# Altium footprint library WE-SECF.PcbLib: 22 footprints (part 2 of 2)
Each footprint in its own frame and in the unit in brackets; x right, y up, seen from the top. Pads: shape width x height; smd on the part's side, far side on the other; paste and mask are expansions set on the pad; w line width, h text height; cw(c..) or ccw(c..) is an arc to the next point about the centre after c.
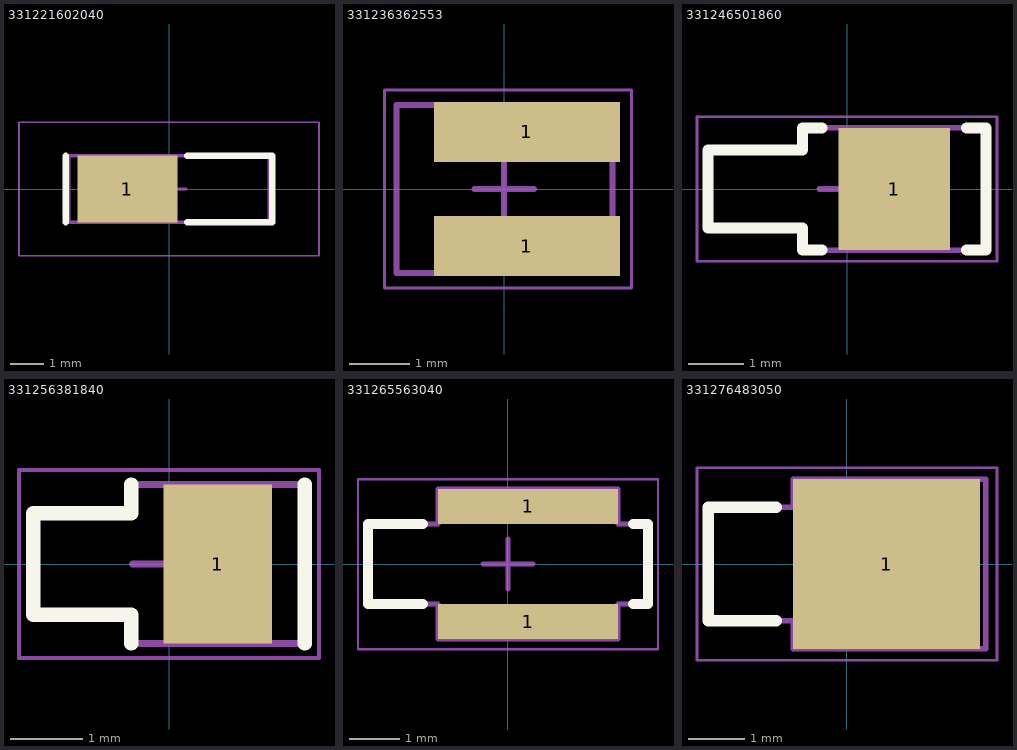
[diagram p1: the footprints below, top view; thin cyan lines are the x and y axes]

## 331221602040 [mm] "SMD EMI Contact Finger, 6x2mm"
height 4.2
pads (1):
  rect 3x2 smd: 1(-1.25,0)
Top Overlay:
  lines w0.2: -3.1,-1 -3.1,1 ; 0.55,-1 3.1,-1 3.1,1 0.55,1
Top Assembly:
  lines w0.1: -3,-1 -3,1 3,1 3,-1 -3,-1
Top Designator:
  text ".Designator" at -3.647,-0.357 h1
Top 3D Body:
  lines w0.1: -3,-1 3,-1 3,1 -3,1 -3,-1
Top Courtyard:
  lines w0.05: -4.5,-2 -4.5,2 4.5,2 4.5,-2 -4.5,-2
Top Component Center:
  lines w0.1: -0.5,0 0.5,0 ; 0,-0.5 0,0.5
3D body "331221602040.stp": height 4, standoff 0, extent -2.995,-1 2.995,1

## 331236362553 [mm] "SMD EMI Contact Finger, 3.6x2.8mm"
height 5.3
pads (2):
  rect 3.1x1 smd: 1(0.375,-0.95) 1(0.375,0.95)
Top Assembly:
  lines w0.1: -1.8,-1.4 1.8,-1.4 1.8,1.4 -1.8,1.4 -1.8,-1.4
Top Designator:
  text ".Designator" at -3.647,-0.357 h1
Top 3D Body:
  lines w0.1: -1.8,-1.4 -1.8,1.4 1.8,1.4 1.8,-1.4 -1.8,-1.4
Top Courtyard:
  lines w0.05: -2,-1.65 -2,1.65 2.125,1.65 2.125,-1.65 -2,-1.65
Top Component Center:
  lines w0.1: -0.5,0 0.5,0 ; 0,-0.5 0,0.5
3D body "33123x362553.stp": height 5.31, standoff 0.01, extent -1.8,-1.4 1.8,1.4

## 331246501860 [mm] "SMD EMI Contact Finger, 5x2.6mm"
height 6
pads (1):
  rect 2x2.2 smd: 1(0.85,0)
Top Overlay:
  lines w0.2: -0.45,-1.1 -0.8,-1.1 -0.8,-0.7 -2.5,-0.7 -2.5,0.7 -0.8,0.7 -0.8,1.1 -0.45,1.1 ; 2.15,-1.1 2.5,-1.1 2.5,1.1 2.15,1.1
Top Assembly:
  lines w0.1: -2.5,-0.7 -2.5,0.7 -0.8,0.7 -0.8,1.1 2.5,1.1 2.5,-1.1 -0.8,-1.1 -0.8,-0.7 -2.5,-0.7
Top Designator:
  text ".Designator" at -3.647,-0.357 h1
Top 3D Body:
  lines w0.1: -2.5,-0.7 -0.8,-0.7 -0.8,-1.1 2.5,-1.1 2.5,1.1 -0.8,1.1 -0.8,0.7 -2.5,0.7 -2.5,-0.7
Top Courtyard:
  lines w0.05: -2.7,-1.3 2.7,-1.3 2.7,1.3 -2.7,1.3 -2.7,-1.3
Top Component Center:
  lines w0.1: -0.5,0 0.5,0 ; 0,-0.5 0,0.5
3D body "33124x501860.stp": height 6.02, standoff 0.01, extent -2.499,-1.3 2.5,1.3

## 331256381840 [mm] "SMD EMI Contact Finger, 3.75x2.5mm"
height 4
pads (1):
  rect 1.5x2.2 smd: 1(0.675,0)
Top Overlay:
  lines w0.2: -0.525,-1.1 -0.525,-0.7 -1.875,-0.7 -1.875,0.7 -0.525,0.7 -0.525,1.1 ; 1.875,-1.1 1.875,1.1
Top Assembly:
  lines w0.1: -1.875,-0.7 -1.875,0.7 -0.525,0.7 -0.525,1.1 1.875,1.1 1.875,-1.1 -0.525,-1.1 -0.525,-0.7 -1.875,-0.7
Top Designator:
  text ".Designator" at -3.647,-0.357 h1
Top 3D Body:
  lines w0.1: -1.875,-0.7 -0.525,-0.7 -0.525,-1.1 1.875,-1.1 1.875,1.1 -0.525,1.1 -0.525,0.7 -1.875,0.7 -1.875,-0.7
Top Courtyard:
  lines w0.05: -2.075,-1.3 2.075,-1.3 2.075,1.3 -2.075,1.3 -2.075,-1.3
Top Component Center:
  lines w0.1: -0.5,0 0.5,0 ; 0,-0.5 0,0.5
3D body "33125x381840.stp": height 4.08, standoff 0.07, extent -1.872,-1.25 1.875,1.25

## 331265563040 [mm] "SMD EMI Contact Finger, 5.6x3mm"
height 4
pads (2):
  rect 3.6x0.7 smd: 1(0.4,-1.15) 1(0.4,1.15)
Top Overlay:
  lines w0.2: -1.7,-0.8 -2.8,-0.8 -2.8,0.8 -1.7,0.8 ; 2.5,-0.8 2.8,-0.8 2.8,0.8 2.5,0.8
Top Assembly:
  lines w0.1: -2.8,-0.8 -2.8,0.8 -1.4,0.8 -1.4,1.5 2.2,1.5 2.2,0.8 2.8,0.8 2.8,-0.8 2.2,-0.8 2.2,-1.5 -1.4,-1.5 -1.4,-0.8 -2.8,-0.8
Top Designator:
  text ".Designator" at -3.647,-0.357 h1
Top 3D Body:
  lines w0.1: -2.8,-0.8 -1.4,-0.8 -1.4,-1.5 2.2,-1.5 2.2,-0.8 2.8,-0.8 2.8,0.8 2.2,0.8 2.2,1.5 -1.4,1.5 -1.4,0.8 -2.8,0.8 -2.8,-0.8
Top Courtyard:
  lines w0.05: -3,-1.7 3,-1.7 3,1.7 -3,1.7 -3,-1.7
Top Component Center:
  lines w0.1: -0.5,0 0.5,0 ; 0,-0.5 0,0.5
3D body "33126x563040.stp": height 4.03, standoff 0.03, extent -2.799,-1.5 2.8,1.5

## 331276483050 [mm] "SMD EMI Contact Finger, 4.9x3mm"
height 5
pads (1):
  rect 3.3x3 smd: 1(0.7,0)
Top Overlay:
  lines w0.2: -1.25,-1 -2.45,-1 -2.45,1 -1.25,1
Top Assembly:
  lines w0.1: -2.45,-1 -2.45,1 -0.95,1 -0.95,1.5 2.45,1.5 2.45,-1.5 -0.95,-1.5 -0.95,-1 -2.45,-1
Top Designator:
  text ".Designator" at -3.647,-0.357 h1
Top 3D Body:
  lines w0.1: -2.45,-1 -0.95,-1 -0.95,-1.5 2.45,-1.5 2.45,1.5 -0.95,1.5 -0.95,1 -2.45,1 -2.45,-1
Top Courtyard:
  lines w0.05: -2.65,-1.7 2.65,-1.7 2.65,1.7 -2.65,1.7 -2.65,-1.7
Top Component Center:
  lines w0.1: -0.5,0 0.5,0 ; 0,-0.5 0,0.5
3D body "33127x483050.stp": height 5.08, standoff 0.08, extent -2.45,-1.5 2.45,1.5